# Altium footprint library SATAConnectors.PcbLib: 5 footprints
Each footprint in its own frame and in the unit in brackets; x right, y up, seen from the top. Pads: shape width x height; smd on the part's side, far side on the other; paste and mask are expansions set on the pad; w line width, h text height; cw(c..) or ccw(c..) is an arc to the next point about the centre after c.
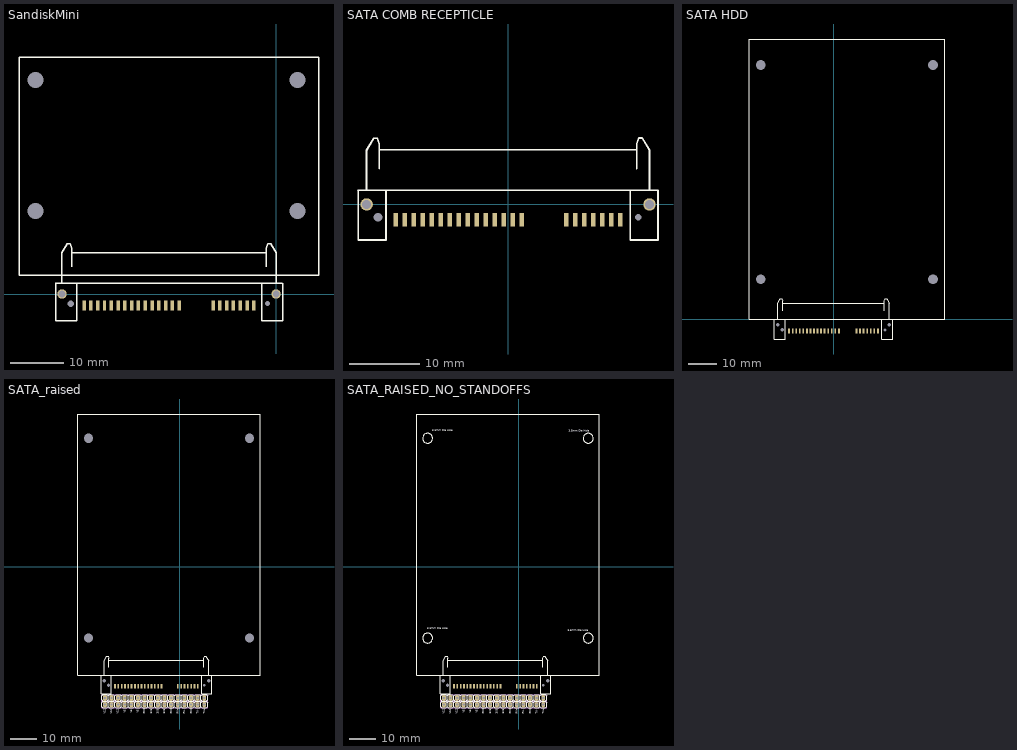
[diagram p0: the footprints below, top view; thin cyan lines are the x and y axes]

## SandiskMini [mm]
pads (30):
  round 0 hole 3: 0(-45,15.5) 0(-45,40) 0(4,15.5) 40(4,40)
  rect 0.65x1.9 smd: P1(-18.11,-2.159) P2(-19.38,-2.159) P3(-20.65,-2.159) P4(-21.92,-2.159) P5(-23.19,-2.159) P6(-24.46,-2.159) P7(-25.73,-2.159) P8(-27,-2.159) P9(-28.27,-2.159) P10(-29.54,-2.159) P11(-30.81,-2.159) P12(-32.08,-2.159) P13(-33.35,-2.159) P14(-34.62,-2.159) P15(-35.89,-2.159) S1(-4.17,-2.15) S2(-5.44,-2.15) S3(-6.71,-2.15) S4(-7.98,-2.15) S5(-9.25,-2.15) S6(-10.52,-2.15) S7(-11.79,-2.15)
  round 1.75 hole 1.25 unplated: ""(-40.015,0) ""(-0.015,0)
  round 0 hole 1.25 unplated: ""(-38.415,-1.8)
  round 0 hole 0.95 unplated: ""(-1.615,-1.8)
Top Overlay:
  lines w0.254: -41.24,2 -37.315,2 -2.765,2 1.16,2 ; -41.215,2 -41.215,-5.025 -37.29,-5.025 -37.29,2 ; -40.04,2 -40.04,7.675 -39.015,9.375 -38.515,9.375 -38.226,8.564 -38.226,7.725 ; -38.226,5.08 -38.226,7.725 ; -2.74,2 -2.74,-5.025 1.185,-5.025 1.185,2 ; -1.829,5.08 -1.83,5.081 -1.83,7.725 ; -0.015,2.025 -0.015,7.7 -1.04,9.4 -1.54,9.4 -1.83,8.589 -1.83,7.725 ; 7.976,3.505 7.976,44.272 -48.057,44.272 -48.057,3.5 8,3.5 ; -38.226,7.725 -1.83,7.725
3D body: height 3, standoff 0, extent -48.26,3.175 8.255,44.45
3D body: height 5.45, standoff -2.37, extent -41.215,-3 1.185,9.4

## SATA COMB RECEPTICLE [mm] "Right Angle SATA Connector, FCI Part# 10029364"
pads (26):
  rect 0.65x1.9 smd: P1(1.905,-2.159) P2(0.635,-2.159) P3(-0.635,-2.159) P4(-1.905,-2.159) P5(-3.175,-2.159) P6(-4.445,-2.159) P7(-5.715,-2.159) P8(-6.985,-2.159) P9(-8.255,-2.159) P10(-9.525,-2.159) P11(-10.795,-2.159) P12(-12.065,-2.159) P13(-13.335,-2.159) P14(-14.605,-2.159) P15(-15.875,-2.159) S1(15.845,-2.15) S2(14.575,-2.15) S3(13.305,-2.15) S4(12.035,-2.15) S5(10.765,-2.15) S6(9.495,-2.15) S7(8.225,-2.15)
  round 1.75 hole 1.25 unplated: ""(-20,0) ""(20,0)
  round 0 hole 1.25 unplated: ""(-18.4,-1.8)
  round 0 hole 0.95 unplated: ""(18.4,-1.8)
Top Overlay:
  lines w0.254: -21.225,2 -17.3,2 17.25,2 21.175,2 ; -21.2,2 -21.2,-5.025 -17.275,-5.025 -17.275,2 ; -20.025,2 -20.025,7.675 -19,9.375 -18.5,9.375 -18.21,8.564 -18.21,7.725 ; -18.21,5.08 -18.21,7.725 ; 17.275,2 17.275,-5.025 21.2,-5.025 21.2,2 ; 18.186,5.08 18.185,5.081 18.185,7.725 ; 20,2.025 20,7.7 18.975,9.4 18.475,9.4 18.185,8.589 18.185,7.725 ; -18.21,7.725 18.185,7.725
3D body: height 5.45, standoff -2.37, extent -21.2,-3 21.2,9.4

## SATA HDD [mm] "FCI Part# 10029364 With HDD Holes and Screen"
pads (30):
  round 0 hole 3.5 unplated: 0(-26,14.3) 0(-26,90.9) 0(35.6,14.3) 0(35.6,90.9)
  rect 0.65x1.9 smd: P1(1.905,-4.159) P2(0.635,-4.159) P3(-0.635,-4.159) P4(-1.905,-4.159) P5(-3.175,-4.159) P6(-4.445,-4.159) P7(-5.715,-4.159) P8(-6.985,-4.159) P9(-8.255,-4.159) P10(-9.525,-4.159) P11(-10.795,-4.159) P12(-12.065,-4.159) P13(-13.335,-4.159) P14(-14.605,-4.159) P15(-15.875,-4.159) S1(15.845,-4.15) S2(14.575,-4.15) S3(13.305,-4.15) S4(12.035,-4.15) S5(10.765,-4.15) S6(9.495,-4.15) S7(8.225,-4.15)
  round 0 hole 1.25 unplated: ""(-20,-2) ""(-18.4,-3.8) ""(20,-2)
  round 0 hole 0.95 unplated: ""(18.4,-3.8)
Top Overlay:
  lines w0.254: -21.225,0 -17.3,0 17.25,0 21.175,0 ; -21.2,0 -21.2,-7.025 -17.275,-7.025 -17.275,0 ; -20.025,0 -20.025,5.675 -19,7.375 -18.5,7.375 -18.21,6.564 -18.21,5.725 ; -18.21,3.08 -18.21,5.725 ; 17.275,0 17.275,-7.025 21.2,-7.025 21.2,0 ; 18.186,3.08 18.185,3.081 18.185,5.725 ; 20,-2 20.025,-1.975 ; 20,0.025 20,5.7 18.975,7.4 18.475,7.4 18.185,6.589 18.185,5.725 ; -18.21,5.725 18.185,5.725 ; -30.124,0.051 -30.099,0.025 39.751,0.025 39.751,100.178 39.726,100.203 -30.124,100.203 -30.124,0.051
3D body: height 9.6, standoff 0, extent 33.765,12.457 37.444,16.136
3D body: height 9.6, standoff 0, extent -27.827,12.45 -24.148,16.129
3D body: height 9.6, standoff 0, extent 33.765,89.057 37.444,92.736
3D body: height 9.6, standoff 0, extent -27.835,89.057 -24.156,92.736
3D body: height 5.45, standoff -2.37, extent -21.25,-4.85 21.15,7.55
3D body: height 9.5, standoff 0, extent -29.975,0.05 40,100.025

## SATA_raised [mil] "SATA raised by 1.2 cm"
pads (62):
  round 0 hole 137.8 unplated: 0(-1374.02,-1073.82) 0(-1374.02,1941.93) 0(1051.18,-1073.82) 0(1051.18,1941.93)
  rect 25.59x74.8 smd: P1(-275.39,-1800.55) P2(-325.39,-1800.55) P3(-375.39,-1800.55) P4(-425.39,-1800.55) P5(-475.39,-1800.55) P6(-525.39,-1800.55) P7(-575.39,-1800.55) P8(-625.39,-1800.55) P9(-675.39,-1800.55) P10(-725.39,-1800.55) P11(-775.39,-1800.55) P12(-825.39,-1800.55) P13(-875.39,-1800.55) P14(-925.39,-1800.55) P15(-975.39,-1800.55) S1(273.43,-1800.2) S2(223.43,-1800.2) S3(173.43,-1800.2) S4(123.43,-1800.2) S5(73.43,-1800.2) S6(23.43,-1800.2) S7(-26.57,-1800.2)
  oct 60x85 hole 35: P1(-229,-2077) P1(-229,-1977) P2(-329,-2077) P2(-329,-1977) P3(-429,-2077) P3(-429,-1977) P4(-529,-2077) P4(-529,-1977) P7(-629,-2077) P7(-629,-1977) P8(-729,-2077) P8(-729,-1977) P9(-829,-2077) P9(-829,-1977) P13(-929,-2077) P13(-929,-1977) P14(-1029,-2077) P14(-1029,-1977) P15(-1129,-2077) P15(-1129,-1977) S2(371,-2077) S2(371,-1977) S3(271,-2077) S3(271,-1977) S4(171,-2077) S4(171,-1977) S5(71,-2077) S5(71,-1977) S6(-29,-2077) S6(-29,-1977) S7(-129,-2077) S7(-129,-1977)
  round 0 hole 49.21 unplated: ""(-1137.8,-1715.55) ""(-1074.8,-1786.42) ""(437.01,-1715.55)
  round 0 hole 37.4 unplated: ""(374.02,-1786.42)
Top Overlay:
  drawing of 352 lines, arcs and shapes, not listed
  text "V12" at -1118,-2219 h30
  text "V12" at -1017.67,-2219 h30
  text "V12" at -917.33,-2219 h30
  text "V5" at -816,-2203 h30
  text "V5" at -715.67,-2203 h30
  text "V5" at -615.33,-2203 h30
  text "3V3" at -415.67,-2219 h30
  text "3V3" at -315.33,-2219 h30
  text "3V3" at -215,-2219 h30
  text "RX-" at 86,-2219 h30
  text "RX+" at -14.33,-2219 h30
  text "GND" at -516,-2219 h30
  text "GND" at -114.67,-2219 h30
  text "GND" at 186.33,-2219 h30
  text "TX-" at 286.67,-2219 h30
  text "TX+" at 387,-2219 h30
Mechanical 1:
  lines w7: 421,-2127 421,-2032 ; 421,-2127 421,-2103.25 421,-2055.75 421,-2032 ; 421,-2127 -1179,-2127 -1179,-2032 421,-2032 ; 421,-2022 421,-1927 ; 421,-2022 421,-1927 ; 421,-2022 -1179,-2022 -1179,-1927 421,-1927
3D body: height 377.95, standoff 0, extent -1446.26,1869.38 -1301.42,2014.23
3D body: height 377.95, standoff 0, extent 978.93,1869.38 1123.78,2014.23
3D body: height 377.95, standoff 0, extent -1445.96,-1146.65 -1301.12,-1001.81
3D body: height 377.95, standoff 0, extent 978.93,-1146.37 1123.78,-1001.52
3D body: height 687.51, standoff -3.46, extent -1321.85,-2225.39 678.15,-1345.32
3D body: height 124.41, standoff -124.41, extent -141.48,-2082 -116.52,-2072.04
3D body: height 124.41, standoff -124.41, extent -141.48,-2082 -116.52,-2072.04
3D body: height 124.41, standoff -124.41, extent -41.48,-2082 -16.52,-2072.04
3D body: height 124.41, standoff -124.41, extent 58.52,-2082 83.48,-2072.04
3D body: height 124.41, standoff -124.41, extent 158.52,-2082 183.48,-2072.04
3D body: height 124.41, standoff -124.41, extent 258.52,-2082 283.48,-2072.04
3D body: height 124.41, standoff -124.41, extent 358.52,-2082 383.48,-2072.04
3D body: height 124.41, standoff -124.41, extent -141.48,-1982 -116.52,-1972.04
3D body: height 124.41, standoff -124.41, extent -41.48,-1982 -16.52,-1972.04
3D body: height 124.41, standoff -124.41, extent 58.52,-1982 83.48,-1972.04
3D body: height 124.41, standoff -124.41, extent 158.52,-1982 183.48,-1972.04
3D body: height 124.41, standoff -124.41, extent 258.52,-1982 283.48,-1972.04
3D body: height 124.41, standoff -124.41, extent 358.52,-1982 383.48,-1972.04
3D body: height 124.41, standoff -124.41, extent -241.48,-1982 -216.52,-1972.04
3D body: height 124.41, standoff -124.41, extent -341.48,-1982 -316.52,-1972.04
3D body: height 124.41, standoff -124.41, extent -441.48,-1982 -416.52,-1972.04
3D body: height 124.41, standoff -124.41, extent -541.48,-1982 -516.52,-1972.04
3D body: height 124.41, standoff -124.41, extent -641.48,-1982 -616.52,-1972.04
3D body: height 124.41, standoff -124.41, extent -741.48,-1982 -716.52,-1972.04
3D body: height 124.41, standoff -124.41, extent -841.48,-1982 -816.52,-1972.04
3D body: height 124.41, standoff -124.41, extent -941.48,-1982 -916.52,-1972.04
3D body: height 124.41, standoff -124.41, extent -1041.48,-1982 -1016.52,-1972.04
3D body: height 124.41, standoff -124.41, extent -1141.48,-1982 -1116.52,-1972.04
3D body: height 124.41, standoff -124.41, extent -241.48,-2082 -216.52,-2072.04
3D body: height 124.41, standoff -124.41, extent -341.48,-2082 -316.52,-2072.04
3D body: height 124.41, standoff -124.41, extent -441.48,-2082 -416.52,-2072.04
3D body: height 124.41, standoff -124.41, extent -541.48,-2082 -516.52,-2072.04
3D body: height 124.41, standoff -124.41, extent -641.48,-2082 -616.52,-2072.04
3D body: height 124.41, standoff -124.41, extent -741.48,-2082 -716.52,-2072.04
3D body: height 124.41, standoff -124.41, extent -841.48,-2082 -816.52,-2072.04
3D body: height 124.41, standoff -124.41, extent -941.48,-2082 -916.52,-2072.04
3D body: height 124.41, standoff -124.41, extent -1041.48,-2082 -1016.52,-2072.04
3D body: height 124.41, standoff -124.41, extent -1141.48,-2082 -1116.52,-2072.04
3D body: height 124.41, standoff -124.41, extent -1141.48,-2082 -1116.52,-2072.04
3D body: height 332.68, standoff 0, extent -1178.98,-2027 421,-1927
3D body: height 332.68, standoff 0, extent -1178.98,-2127 421,-2027
3D body: height 846.46, standoff 472.44, extent -1535.43,-1632.87 1219.49,2303.15

## SATA_RAISED_NO_STANDOFFS [mil] "SATA raised by 1.2 cm but not standoff holes"
pads (58):
  rect 25.59x74.8 smd: P1(-275.39,-1800.55) P2(-325.39,-1800.55) P3(-375.39,-1800.55) P4(-425.39,-1800.55) P5(-475.39,-1800.55) P6(-525.39,-1800.55) P7(-575.39,-1800.55) P8(-625.39,-1800.55) P9(-675.39,-1800.55) P10(-725.39,-1800.55) P11(-775.39,-1800.55) P12(-825.39,-1800.55) P13(-875.39,-1800.55) P14(-925.39,-1800.55) P15(-975.39,-1800.55) S1(273.43,-1800.2) S2(223.43,-1800.2) S3(173.43,-1800.2) S4(123.43,-1800.2) S5(73.43,-1800.2) S6(23.43,-1800.2) S7(-26.57,-1800.2)
  oct 60x85 hole 35: P1(-229,-2077) P1(-229,-1977) P2(-329,-2077) P2(-329,-1977) P3(-429,-2077) P3(-429,-1977) P4(-529,-2077) P4(-529,-1977) P7(-629,-2077) P7(-629,-1977) P8(-729,-2077) P8(-729,-1977) P9(-829,-2077) P9(-829,-1977) P13(-929,-2077) P13(-929,-1977) P14(-1029,-2077) P14(-1029,-1977) P15(-1129,-2077) P15(-1129,-1977) S2(371,-2077) S2(371,-1977) S3(271,-2077) S3(271,-1977) S4(171,-2077) S4(171,-1977) S5(71,-2077) S5(71,-1977) S6(-29,-2077) S6(-29,-1977) S7(-129,-2077) S7(-129,-1977)
  round 0 hole 49.21 unplated: ""(-1137.8,-1715.55) ""(-1074.8,-1786.42) ""(437.01,-1715.55)
  round 0 hole 37.4 unplated: ""(374.02,-1786.42)
Top Overlay:
  drawing of 356 lines, arcs and shapes, not listed
  text "V12" at -1118,-2219 h30
  text "V12" at -1017.67,-2219 h30
  text "V12" at -917.33,-2219 h30
  text "V5" at -816,-2203 h30
  text "V5" at -715.67,-2203 h30
  text "V5" at -615.33,-2203 h30
  text "3V3" at -415.67,-2219 h30
  text "3V3" at -315.33,-2219 h30
  text "3V3" at -215,-2219 h30
  text "RX-" at 86,-2219 h30
  text "RX+" at -14.33,-2219 h30
  text "GND" at -516,-2219 h30
  text "GND" at -114.67,-2219 h30
  text "GND" at 186.33,-2219 h30
  text "TX-" at 286.67,-2219 h30
  text "TX+" at 387,-2219 h30
  text "3.5mm Dia Hole" at 753,2040 h30
  text "3.5mm Dia Hole" at -1377,-940 h30
  text "3.5mm Dia Hole" at -1303,2047 h30
  text "3.5mm Dia Hole" at 744,-974 h30
Mechanical 1:
  lines w7: 421,-2127 421,-2032 ; 421,-2127 421,-2103.25 421,-2055.75 421,-2032 ; 421,-2127 -1179,-2127 -1179,-2032 421,-2032 ; 421,-2022 421,-1927 ; 421,-2022 421,-1927 ; 421,-2022 -1179,-2022 -1179,-1927 421,-1927
3D body: height 687.51, standoff -3.46, extent -1321.85,-2225.39 678.15,-1345.32
3D body: height 124.41, standoff -124.41, extent -141.48,-2082 -116.52,-2072.04
3D body: height 124.41, standoff -124.41, extent -141.48,-2082 -116.52,-2072.04
3D body: height 124.41, standoff -124.41, extent -41.48,-2082 -16.52,-2072.04
3D body: height 124.41, standoff -124.41, extent 58.52,-2082 83.48,-2072.04
3D body: height 124.41, standoff -124.41, extent 158.52,-2082 183.48,-2072.04
3D body: height 124.41, standoff -124.41, extent 258.52,-2082 283.48,-2072.04
3D body: height 124.41, standoff -124.41, extent 358.52,-2082 383.48,-2072.04
3D body: height 124.41, standoff -124.41, extent -141.48,-1982 -116.52,-1972.04
3D body: height 124.41, standoff -124.41, extent -41.48,-1982 -16.52,-1972.04
3D body: height 124.41, standoff -124.41, extent 58.52,-1982 83.48,-1972.04
3D body: height 124.41, standoff -124.41, extent 158.52,-1982 183.48,-1972.04
3D body: height 124.41, standoff -124.41, extent 258.52,-1982 283.48,-1972.04
3D body: height 124.41, standoff -124.41, extent 358.52,-1982 383.48,-1972.04
3D body: height 124.41, standoff -124.41, extent -241.48,-1982 -216.52,-1972.04
3D body: height 124.41, standoff -124.41, extent -341.48,-1982 -316.52,-1972.04
3D body: height 124.41, standoff -124.41, extent -441.48,-1982 -416.52,-1972.04
3D body: height 124.41, standoff -124.41, extent -541.48,-1982 -516.52,-1972.04
3D body: height 124.41, standoff -124.41, extent -641.48,-1982 -616.52,-1972.04
3D body: height 124.41, standoff -124.41, extent -741.48,-1982 -716.52,-1972.04
3D body: height 124.41, standoff -124.41, extent -841.48,-1982 -816.52,-1972.04
3D body: height 124.41, standoff -124.41, extent -941.48,-1982 -916.52,-1972.04
3D body: height 124.41, standoff -124.41, extent -1041.48,-1982 -1016.52,-1972.04
3D body: height 124.41, standoff -124.41, extent -1141.48,-1982 -1116.52,-1972.04
3D body: height 124.41, standoff -124.41, extent -241.48,-2082 -216.52,-2072.04
3D body: height 124.41, standoff -124.41, extent -341.48,-2082 -316.52,-2072.04
3D body: height 124.41, standoff -124.41, extent -441.48,-2082 -416.52,-2072.04
3D body: height 124.41, standoff -124.41, extent -541.48,-2082 -516.52,-2072.04
3D body: height 124.41, standoff -124.41, extent -641.48,-2082 -616.52,-2072.04
3D body: height 124.41, standoff -124.41, extent -741.48,-2082 -716.52,-2072.04
3D body: height 124.41, standoff -124.41, extent -841.48,-2082 -816.52,-2072.04
3D body: height 124.41, standoff -124.41, extent -941.48,-2082 -916.52,-2072.04
3D body: height 124.41, standoff -124.41, extent -1041.48,-2082 -1016.52,-2072.04
3D body: height 124.41, standoff -124.41, extent -1141.48,-2082 -1116.52,-2072.04
3D body: height 124.41, standoff -124.41, extent -1141.48,-2082 -1116.52,-2072.04
3D body: height 332.68, standoff 0, extent -1178.98,-2027 421,-1927
3D body: height 332.68, standoff 0, extent -1178.98,-2127 421,-2027
3D body: height 846.46, standoff 472.44, extent -1535.43,-1632.87 1219.49,2303.15